# Altium schematic symbol library SCH - DIODES - DIODE.SCHLIB: 1 symbol
Pins are listed as number, name and electrical type; pins without a type are passive.

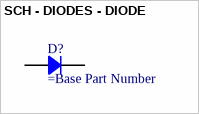
[diagram p0: symbol SCH - DIODES - DIODE]

## SCH - DIODES - DIODE
designator D?
Rectifier Diode
pins: 1, 2